# EAGLE library part AD5262 (library SparkFun-IC-Special-Function)
Digital Potentiometer IC Datasheet <https://cdn.sparkfun.com/assets/learn_tutorials/1/8/8/AD5262BRU_datasheet.pdf> SparkFun Products SparkFun Touch Potentiometer <https://www.sparkfun.com/products/13144> (PRT-13144)
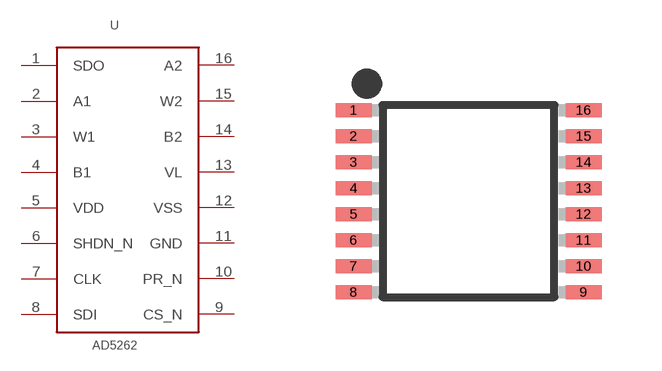
[diagram p19: symbol with the pads of SSOP16; footprint SSOP16]

Designator prefix -

## AD5262 (PROD_ID: IC-12358; VALUE: AD5262BRU)  [SSOP16]
1  SDO  out
2  A1  pas
3  W1  pas
4  B1  pas
5  VDD  pwr
6  SHDN_N  in
7  CLK  in
8  SDI  in
9  CS_N  in
10  PR_N  in
11  GND  pwr
12  VSS  pwr
13  VL  pwr
14  B2  pas
15  W2  pas
16  A2  pas

## Footprint SSOP16 (pad centres in mm)
smd 0.9 x 0.35: 1 -2.875,2.275; 2 -2.875,1.625; 3 -2.875,0.975; 4 -2.875,0.325; 5 -2.875,-0.325; 6 -2.875,-0.975; 7 -2.875,-1.625; 8 -2.875,-2.275; 9 2.875,-2.275; 10 2.875,-1.625; 11 2.875,-0.975; 12 2.875,-0.325; 13 2.875,0.325; 14 2.875,0.975; 15 2.875,1.625; 16 2.875,2.275